# Altium schematic symbol library TPS7A3901DSCR.Schlib: 1 symbol
Pins are listed as number, name and electrical type; pins without a type are passive.

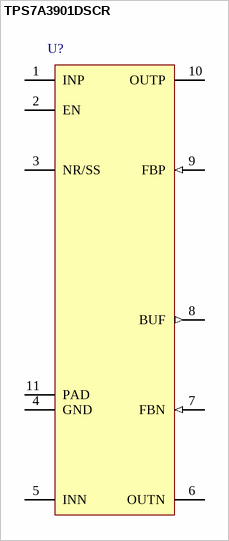
[diagram p0: symbol TPS7A3901DSCR]

## TPS7A3901DSCR
designator U?
pins: 1 INP (power), 2 EN (power), 3 NR/SS (power), 4 GND (power), 5 INN (power), 6 OUTN (power), 7 FBN (in), 8 BUF (out), 9 FBP (in), 10 OUTP (power), 11 PAD